# Altium schematic symbol library TPS5403DR.SchLib: 1 symbol
Pins are listed as number, name and electrical type; pins without a type are passive.

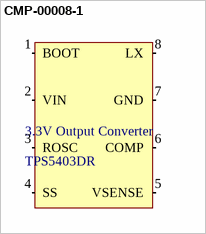
[diagram p0: symbol CMP-00008-1]

## CMP-00008-1
designator 3.3V Output Converter, comment TPS5403DR
Conv DC-DC Single Step Down 4.5V to 28V 8-Pin SOIC T/R
footprint SOIC127P600X175-8N (SOIC, 8-Leads, Body 4.91x3.90mm, Pitch 1.27mm, IPC Medium Density)
pins: 1 BOOT (in), 2 VIN (in), 3 ROSC (in), 4 SS (in), 5 VSENSE (in), 6 COMP (in), 7 GND (in), 8 LX (in)